# Altium footprint library JST_S5B-ZR-SM4A-TF.PcbLib: 1 footprints
Each footprint in its own frame and in the unit in brackets; x right, y up, seen from the top. Pads: shape width x height; smd on the part's side, far side on the other; paste and mask are expansions set on the pad; w line width, h text height; cw(c..) or ccw(c..) is an arc to the next point about the centre after c.
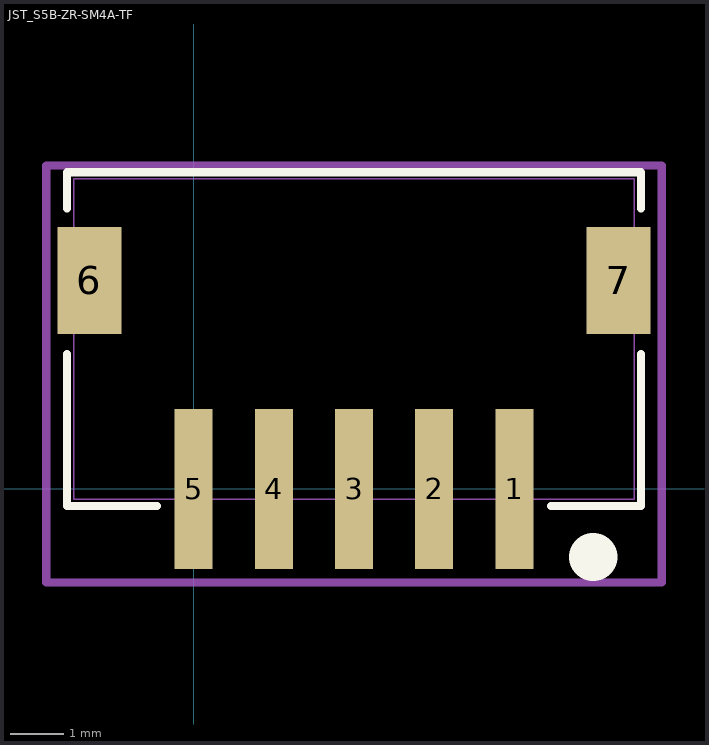
[diagram p0: the footprint, top view; thin cyan lines are the x and y axes]

## JST_S5B-ZR-SM4A-TF [mil]
pads (7):
  rect 28x118 smd paste+0: 1(236.22,0) 2(177.17,0) 3(118.11,0) 4(59.06,0) 5(0,0)
  rect 47x79 smd: 6(-76.77,153.62) 7(312.99,153.62)
Top Overlay:
  circle w35.43: c294.29,-50.2 r0.04
  lines w6: -93.39,99.41 -93.39,-12.69 -27.1,-12.69 ; -93.39,206.69 -93.39,233.31 329.61,233.31 329.61,206.69 ; 263.32,-12.69 329.61,-12.69 329.61,99.41
Mechanical 13:
  lines w1: -88.39,-7.69 324.61,-7.69 324.61,228.31 -88.39,228.31 -88.39,-7.69
Mechanical 15:
  lines w6: -108.54,-69 -108.54,238.31 344.76,238.31 344.76,-69 -108.54,-69
3D body: height 10, standoff 0, extent 0,0 10,10
3D body "S5B-ZR-SM4A-TF.STEP": height 145.67, standoff 0, extent -88.39,-27.6 325,228.31